# EAGLE library part PBU4U (library switch-e-switch)
4PDT PUSHBUTTON SWITCH
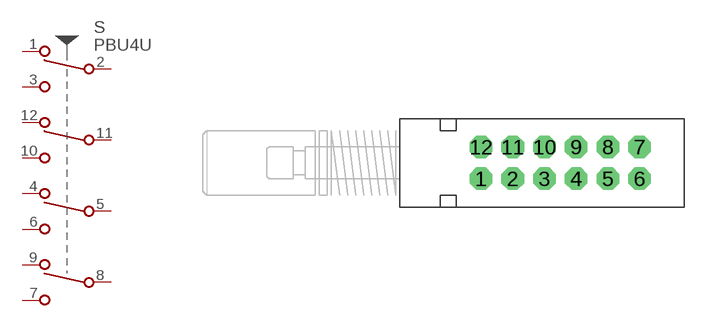
[diagram p8: symbol with the pads of PBH4U; footprint PBH4U]

Designator prefix S

## PBU4U  [PBH4U]
1  A-NC  pas
2  A-COM  pas
3  A-NO  pas
4  C-NC  pas
5  C-COM  pas
6  C-NO  pas
7  D-NO  pas
8  D-COM  pas
9  D-NC  pas
10  B-NO  pas
11  B-COM  pas
12  B-NC  pas

## Footprint PBH4U (pad centres in mm)
Pushbutton Switch PBH Series
drill 0.813 pad 1.778 octagon: 1 -2.5,-1.25; 2 0,-1.25; 3 2.5,-1.25; 4 5,-1.25; 5 7.5,-1.25; 6 10,-1.25; 7 10,1.25; 8 7.5,1.25; 9 5,1.25; 10 2.5,1.25; 11 0,1.25; 12 -2.5,1.25